# EAGLE library part ARDUINO (library SmallRoomLabs)
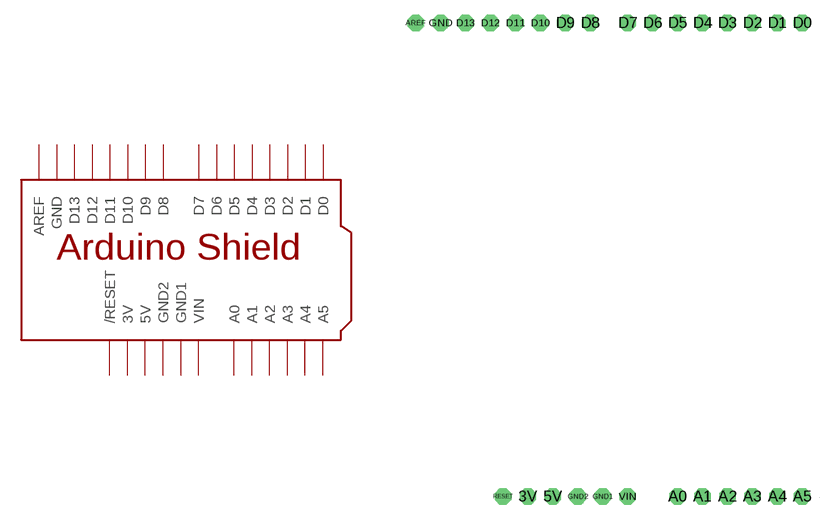
[diagram p1: symbol with the pads of SHIELD-NOLEGEND; footprint SHIELD-NOLEGEND]

Designator prefix -

## ARDUINO  [SHIELD-NOLEGEND]
3V  3V  pwr
5V  5V  pwr
A0  A0
A1  A1
A2  A2
A3  A3
A4  A4
A5  A5
AREF  AREF
D0  D0
D1  D1
D2  D2
D3  D3
D4  D4
D5  D5
D6  D6
D7  D7
D8  D8
D9  D9
D10  D10
D11  D11
D12  D12
D13  D13
GND  GND  pwr
GND1  GND1  pwr
GND2  GND2  pwr
RESET  /RESET
VIN  VIN  pwr

## Footprint SHIELD-NOLEGEND (pad centres in mm)
drill 1 pad 1.676 octagon: 3V -8.89,-24.13; 5V -6.35,-24.13; A0 6.35,-24.13; A1 8.89,-24.13; A2 11.43,-24.13; A3 13.97,-24.13; A4 16.51,-24.13; A5 19.05,-24.13; AREF -20.32,24.13; D0 19.05,24.13; D1 16.51,24.13; D2 13.97,24.13; D3 11.43,24.13; D4 8.89,24.13; D5 6.35,24.13; D6 3.81,24.13; D7 1.27,24.13; D8 -2.54,24.13; D9 -5.08,24.13; D10 -7.62,24.13; D11 -10.16,24.13; D12 -12.7,24.13; D13 -15.24,24.13; GND -17.78,24.13; GND1 -1.27,-24.13; GND2 -3.81,-24.13; RESET -11.43,-24.13; VIN 1.27,-24.13